# Altium footprint library Rectangular Connectors.PcbLib: 6 footprints
Each footprint in its own frame and in the unit in brackets; x right, y up, seen from the top. Pads: shape width x height; smd on the part's side, far side on the other; paste and mask are expansions set on the pad; w line width, h text height; cw(c..) or ccw(c..) is an arc to the next point about the centre after c.
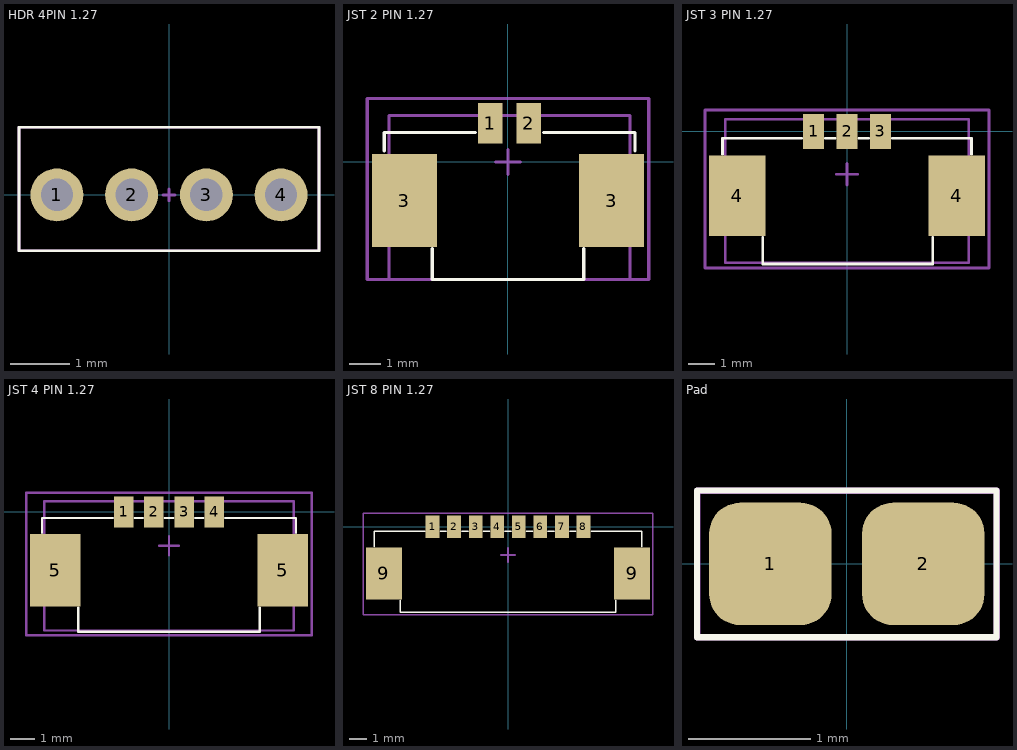
[diagram p0: the footprints below, top view; thin cyan lines are the x and y axes]

## HDR 4PIN 1.27 [mm] "Through Hole / Female /"
pads (4):
  round 0.9 hole 0.55 mask+0.05: 1(-1.905,0) 2(-0.635,0) 3(0.635,0) 4(1.905,0)
Top Overlay:
  lines w0.05: -2.55,-0.95 2.55,-0.95 2.55,1.15 -2.55,1.15 -2.55,-0.95
Top 3D Body:
  lines w0.05: -2.55,-0.95 2.55,-0.95 2.55,1.15 -2.55,1.15 -2.55,-0.95
Top Component Center:
  lines w0.05: -0.1,0 0.1,0 ; 0,-0.1 0,0.1 ; -2.55,-0.95 2.55,-0.95 2.55,1.15 -2.55,1.15 -2.55,-0.95
Top Designator:
  lines w0.05: -2.55,-0.95 -2.55,1.15 2.55,1.15 2.55,-0.95 -2.55,-0.95
  text ".Designator" at -1.205,-0.172 h0.5
3D body "FH23-04S3-SS.stp": height 4.6, standoff -2.1, extent -2.54,-0.95 2.54,1.15

## JST 2 PIN 1.27 [mm] "1.27mm"
pads (4):
  rect 0.8x1.3 smd mask+0.05: 1(-0.575,1.25) 2(0.675,1.25)
  rect 2.1x3 smd mask+0.05: 3(-3.35,-1.25) 3(3.35,-1.25)
Top Overlay:
  lines w0.1: -4,0.35 -4,0.95 -1.05,0.95 ; -2.45,-2.8 -2.45,-3.8 2.45,-3.8 2.45,-2.8 ; 1.15,0.95 4.1,0.95 4.1,0.35
Top 3D Body:
  lines w0.1: -3.85,-3.8 -3.85,1.5 3.95,1.5 3.95,-3.8 -3.85,-3.8
Top Component Center:
  lines w0.1: -0.4,0 0.4,0 ; 0,-0.4 0,0.4 ; -4.55,-3.8 4.55,-3.8 4.55,2.05 -4.5,2.05 -4.55,2.05 -4.55,-3.8
Top Designator:
  lines w0.1: -4.55,-3.8 -4.55,2.05 4.55,2.05 4.55,-3.8 -4.55,-3.8
  text ".Designator" at 0.76,-0.143 h0.5
3D body "JST - GH - SMD (R) - 2Pin - 1.25mm.stp": height 3.63, standoff 0.1, extent -3.85,-3.823 3.979,1.523

## JST 3 PIN 1.27 [mm] "1.27mm"
pads (5):
  rect 0.8x1.3 smd mask+0.05: 1(-1.25,0) 2(0,0) 3(1.25,0)
  rect 2.1x3 smd mask+0.05: 4(-4.1,-2.4) 4(4.1,-2.4)
Top Overlay:
  lines w0.1: -4.65,-0.85 -4.65,-0.25 -1.7,-0.25 ; -3.15,-3.95 -3.15,-4.95 3.2,-4.95 3.2,-3.95 ; -0.8,-0.25 -0.45,-0.25 ; 0.45,-0.25 0.8,-0.25 ; 1.7,-0.25 4.65,-0.25 4.65,-0.85
Top 3D Body:
  lines w0.1: -4.55,-4.9 4.55,-4.9 4.55,0.45 -4.55,0.45 -4.55,-4.9
Top Component Center:
  lines w0.1: -0.4,-1.6 0.4,-1.6 ; 0,-2 0,-1.2 ; -5.3,-5.1 -5.3,0.8 -5.25,0.8 5.3,0.8 5.3,-5.1 -5.3,-5.1
Top Designator:
  lines w0.1: -5.3,-5.1 5.3,-5.1 5.3,0.8 -5.3,0.8 -5.3,-5.1
  text ".Designator" at 1.15,-1.683 h0.5
3D body "JST - GH - SMD (R) - 3Pin - 1.25mm.stp": height 3.53, standoff 0, extent -4.539,-4.902 4.539,0.445

## JST 4 PIN 1.27 [mm] "1.27mm"
pads (6):
  rect 0.8x1.3 smd mask+0.05: 1(-1.875,0) 2(-0.625,0) 3(0.625,0) 4(1.875,0)
  rect 2.1x3 smd mask+0.05: 5(-4.7,-2.4) 5(4.7,-2.4)
Top Overlay:
  lines w0.1: -5.25,-0.85 -5.25,-0.25 -2.325,-0.25 ; -3.75,-3.95 -3.75,-4.95 3.75,-4.95 3.75,-3.95 ; -1.425,-0.25 -1.075,-0.25 ; -0.175,-0.25 0.175,-0.25 ; 1.075,-0.25 1.425,-0.25 ; 2.33,-0.25 5.25,-0.25 5.25,-0.256 5.25,-0.85
Top 3D Body:
  lines w0.1: -5.15,-4.9 -5.15,0.45 5.15,0.45 5.15,-4.9 -5.15,-4.9
Top Component Center:
  lines w0.1: -0.4,-1.4 0.4,-1.4 ; 0,-1.8 0,-1 ; -5.9,-5.1 5.9,-5.1 5.9,0.8 -5.75,0.8 -5.9,0.8 -5.9,-5.1
Top Designator:
  lines w0.1: -5.9,-5.1 5.9,-5.1 5.9,0.8 -5.9,0.8 -5.9,-5.1
  text ".Designator" at 3.689,-1.476 h0.5
3D body "JST - GH - SMD (R) - 4Pin - 1.25mm.stp": height 3.53, standoff 0, extent -5.164,-4.902 5.164,0.444

## JST 8 PIN 1.27 [mm]
pads (10):
  rect 0.8x1.3 smd mask+0.05: 1(-4.375,0) 2(-3.125,0) 3(-1.875,0) 4(-0.625,0) 5(0.625,0) 6(1.875,0) 7(3.125,0) 8(4.375,0)
  rect 2.1x3 smd mask+0.05: 9(-7.2,-2.7) 9(7.2,-2.7)
Top Overlay:
  lines w0.1: -7.75,-1.15 -7.75,-0.25 -4.8,-0.25 ; -6.25,-4.25 -6.25,-4.95 6.25,-4.95 6.25,-4.25 ; -3.925,-0.25 -3.575,-0.25 ; -2.675,-0.25 -2.325,-0.25 ; -1.425,-0.25 -1.075,-0.25 ; -0.175,-0.25 0.175,-0.25 ; 1.075,-0.25 1.425,-0.25 ; 2.325,-0.25 2.675,-0.25 ; 3.575,-0.25 3.925,-0.25 ; 4.827,-0.251 7.75,-0.251 7.75,-1.15
Top Component Center:
  lines w0.1: -0.425,-1.625 0.425,-1.625 ; 0,-2.05 0,-1.2 ; -8.4,-5.1 8.4,-5.1 8.4,0.8 -8.4,0.8 -8.4,-5.1
Top Designator:
  lines w0.1: -8.4,-5.1 -8.4,0.8 8.4,0.8 8.4,-5.1 -8.4,-5.1
  text ".Designator" at 6.215,-2.103 h0.5
3D body "JST - GH - SMD (R) - 8Pin - 1.25mm.stp": height 3.53, standoff 0, extent -7.664,-4.902 7.664,0.445

## Pad [mm]
pads (2):
  rrect50% 1x1 smd mask+0.05: 1(-0.625,0) 2(0.625,0)
Top Overlay:
  lines w0.05: -1.225,-0.6 1.225,-0.6 1.225,0.6 -1.225,0.6 -1.225,-0.6
Top Component Center:
  lines w0.05: -1.222,-0.602 1.228,-0.602 1.228,0.598 -1.222,0.598 -1.222,-0.602
Top Designator:
  lines w0.05: -1.224,-0.602 1.226,-0.602 1.226,0.598 -1.224,0.598 -1.224,-0.602
  text ".Designator" at -0.5,-0.133 h0.5